# EAGLE library part MICS2614/2714 (library BaseApp)
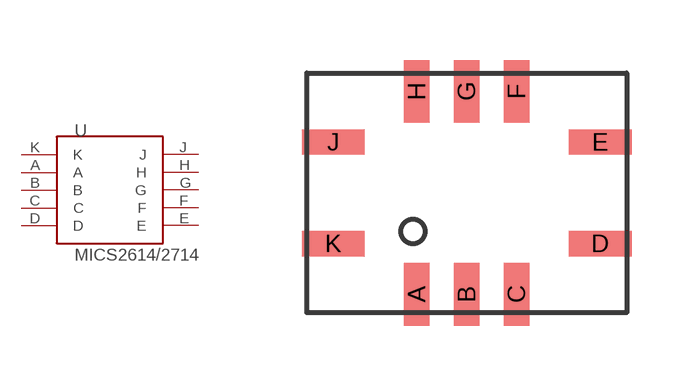
[diagram p92: symbol with the pads of MICS2X14; footprint MICS2X14]

Designator prefix -

## MICS2614/2714  [MICS2X14]
A  A
B  B
C  C
D  D
E  E
F  F
G  G
H  H
J  J
K  K

## Footprint MICS2X14 (pad centres in mm)
smd 0.635 x 1.57: A -1.25,-2.54; B 0,-2.54; C 1.25,-2.54; F 1.25,2.54; G 0,2.54; H -1.25,2.54
smd 1.57 x 0.635: D 3.34,-1.27; E 3.34,1.27; J -3.34,1.27; K -3.34,-1.27